# EAGLE library part AS-ITM-00081 (library tinycircuits)
GYRO/ACCELEROMETER 9-AXIS 24LGA
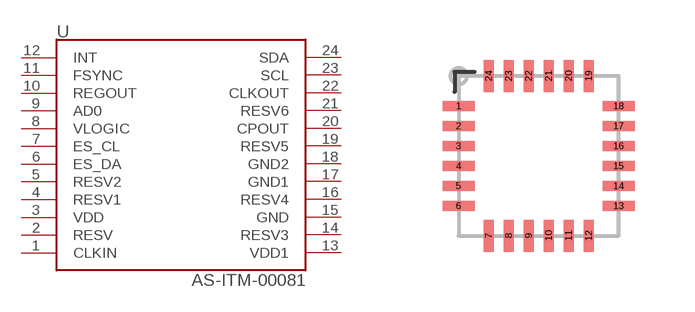
[diagram p32: symbol with the pads of MPU-9150; footprint MPU-9150]

Designator prefix U

## AS-ITM-00081 (PARTNO: AS-ITM-00081; VALUE: MPU-9150)  [MPU-9150]
1  CLKIN
2  RESV
3  VDD
4  RESV1
5  RESV2
6  ES_DA
7  ES_CL
8  VLOGIC
9  AD0
10  REGOUT
11  FSYNC
12  INT
13  VDD1
14  RESV3
15  GND
16  RESV4
17  GND1
18  GND2
19  RESV5
20  CPOUT
21  RESV6
22  CLKOUT
23  SCL
24  SDA

## Footprint MPU-9150 (pad centres in mm)
smd 0.8 x 0.25: 1 -2,1.25; 2 -2,0.75; 3 -2,0.25; 4 -2,-0.25; 5 -2,-0.75; 6 -2,-1.25; 13 2,-1.25; 14 2,-0.75; 15 2,-0.25; 16 2,0.25; 17 2,0.75; 18 2,1.25
smd 0.25 x 0.8: 7 -1.25,-2; 8 -0.75,-2; 9 -0.25,-2; 10 0.25,-2; 11 0.75,-2; 12 1.25,-2; 19 1.25,2; 20 0.75,2; 21 0.25,2; 22 -0.25,2; 23 -0.75,2; 24 -1.25,2